# Altium schematic symbol library Moto Symbol Lib.SchLib: 20 symbols
Pins are listed as number, name and electrical type; pins without a type are passive.

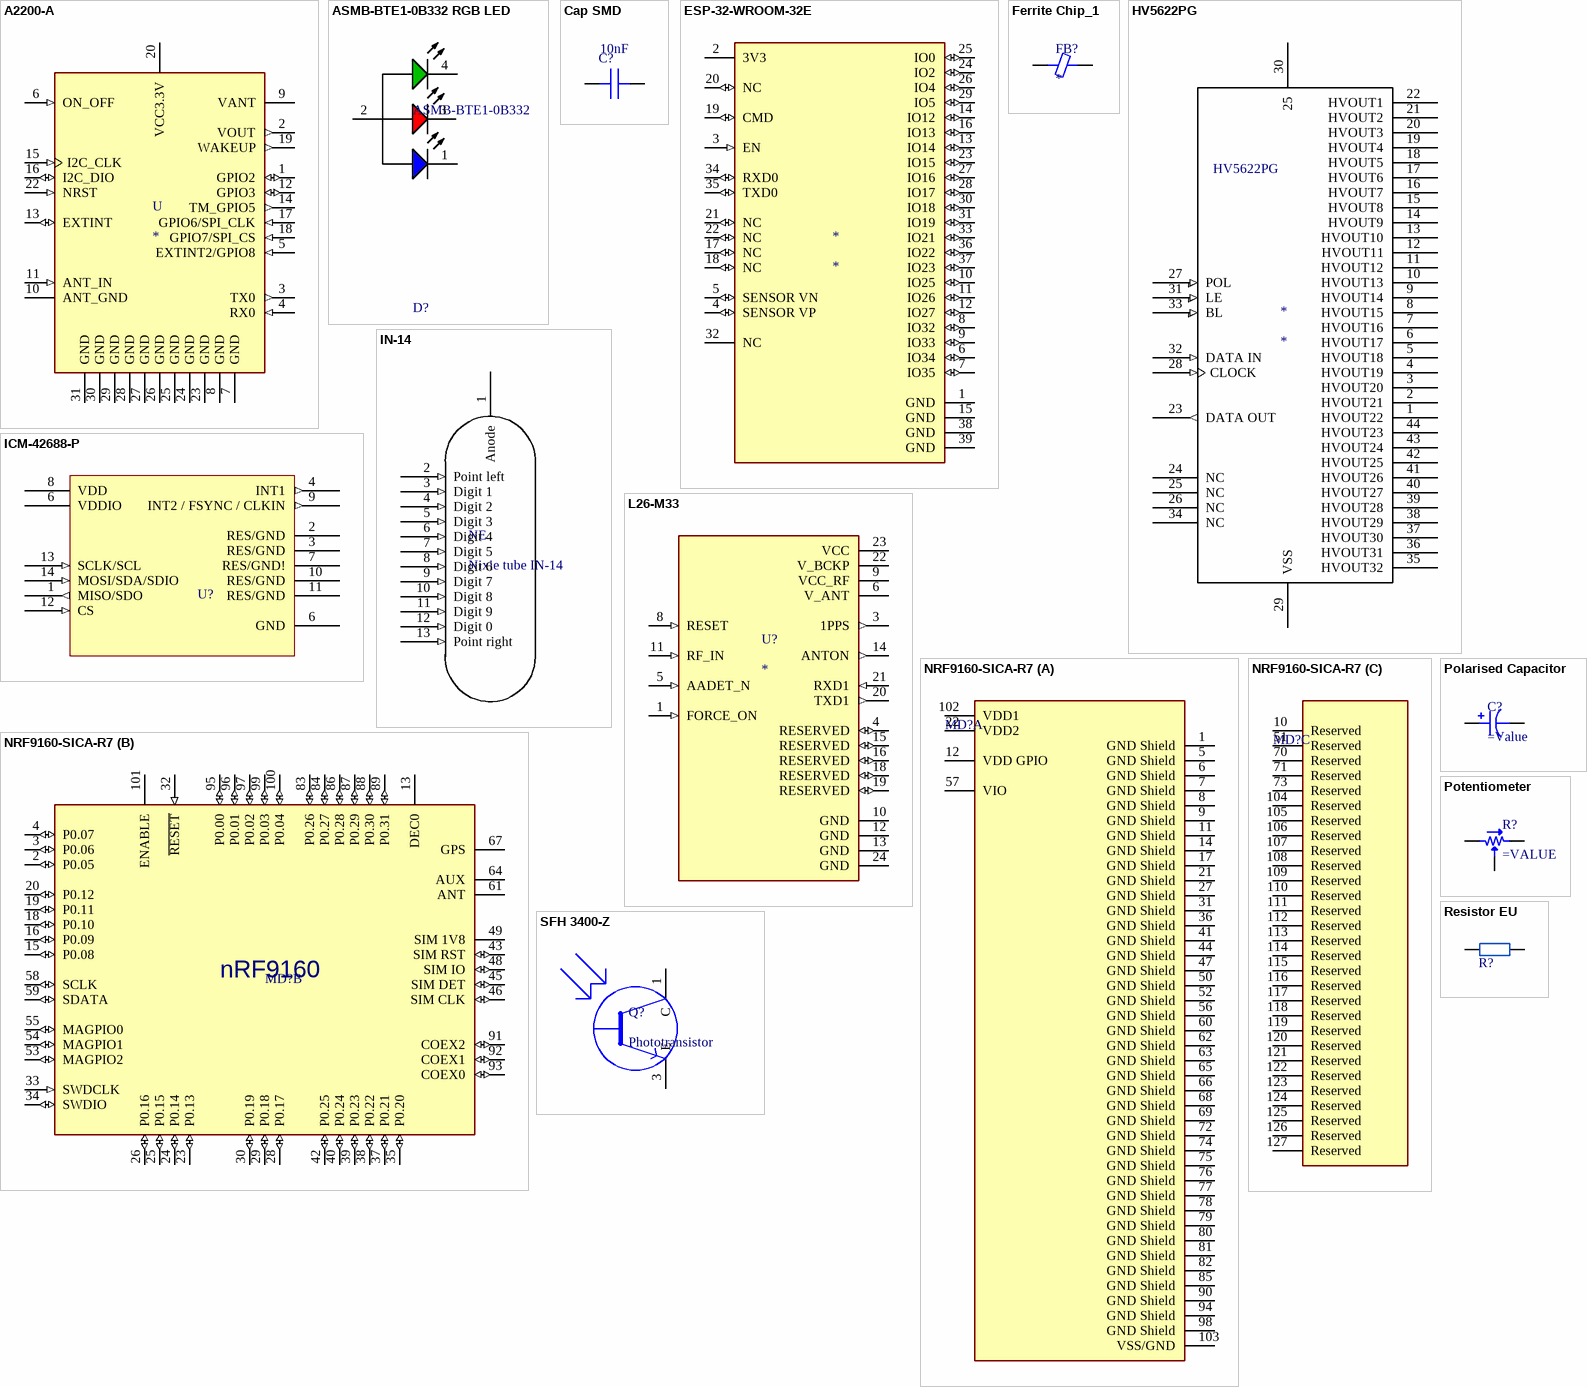
[diagram p0: symbols A2200-A to SFH 3400-Z]

## A2200-A
designator U
SiRFstarIVâ„¢ RF Receiver GPS 1.575GHz -163dBm 115.2kbps Module; MP: A2200-A; MF: Maestro Wireless; SnapEDA_Link: https://www.snapeda.com/parts/A2200-A/Maestro%20Wireless%20Solutions/view-part/51723/?ref=snap; Availability: Unavailable; Price: None; Value: *; Package: Module Maestro Wireless
footprint XCVR_A2200-A
pins: 1 GPIO2 (io), 2 VOUT (out), 3 TX0 (out), 4 RX0 (in), 5 EXTINT2/GPIO8 (in), 6 ON_OFF (in), 7 GND (power), 8 GND (power), 9 VANT (power), 10 ANT_GND (power), 11 ANT_IN (in), 12 GPIO3 (io), 13 EXTINT (io), 14 TM_GPIO5 (out), 15 I2C_CLK (in), 16 I2C_DIO (io), 17 GPIO6/SPI_CLK (in), 18 GPIO7/SPI_CS (in), 19 WAKEUP (out), 20 VCC3.3V (power), 22 NRST (in), 23 GND (power), 24 GND (power), 25 GND (power), 26 GND (power), 27 GND (power), 28 GND (power), 29 GND (power), 30 GND (power), 31 GND (power)

## ASMB-BTE1-0B332 RGB LED
designator D?, comment ASMB-BTE1-0B332
LED RGB DIFFUSED 4PLCC SMD; Manufacturer: Broadcom; Led Orientation: Top View; Colour: Blue, Green, Red; Viewing Angle: 110°; Power Dissipation: 90/90/78mW; Forward Current: 20mA; Max Junction Temp: +110°C; Wavelength: 469/529/622nm; Luminous Intensity: 350/1500/630mcd; Forward Voltage: 3.1/3.1/2.1V; Reverse Voltage: 4V; Peak Emmision Wavelength: 464/521/629nm; Package: 0; Temperature Range High: +100°C; Device Class L1: Optoelectronics; Device Class L2: LEDs; Temperature Range Low: -40°C; Temperature: -40°C to +100°C; Category: Diode; Device Class L3: unset; Manufacturer Part Number: ASMB-BTE1-0B332; Digikey Description: LED RGB DIFFUSED 4PLCC SMD; Lead Free: Yes; ComponentLink2Description: Datasheet; RoHS: TRUE; Automotive: No; Height: 2.1mm; ComponentLink2URL: https://docs.broadcom.com/docs/AV02-4236EN; Octopart: https://octopart.com/asmb-bte1-0b332-broadcom-71127192
footprint FP-ASMB-BTE1-0B332-MFG
pins: 1 Cathode(Blue), 2 Common Anode, 3 Cathode(Red), 4 Cathode(Green)

## Cap SMD
designator C?  value 10nF  (hidden comment: Cap SMD)
footprint C0603 (1608) (Chip Capacitor, 2-Leads, Body 1,60x0,81mm, IPC Low Density)
pins: 1 (power) "Output", 2 (power) "Output"

## ESP-32-WROOM-32E
designator *
footprint ESP-32-WROOM-32E
pins: 1 GND (power), 2 3V3 (power), 3 EN (in), 4 SENSOR VP (io), 5 SENSOR VN (io), 6 IO34 (io), 7 IO35 (io), 8 IO32 (io), 9 IO33 (io), 10 IO25 (io), 11 IO26 (io), 12 IO27 (io), 13 IO14 (io), 14 IO12 (io), 15 GND (power), 16 IO13 (io), 17 NC (io), 18 NC (io), 19 CMD (io), 20 NC (io), 21 NC (io), 22 NC (io), 23 IO15 (io), 24 IO2 (io), 25 IO0 (io), 26 IO4 (io), 27 IO16 (io), 28 IO17 (io), 29 IO5 (io), 30 IO18 (io), 31 IO19 (io), 32 NC, 33 IO21 (io), 34 RXD0 (io), 35 TXD0 (io), 36 IO22 (io), 37 IO23 (io), 38 GND (power), 39 GND (power)

## Ferrite Chip_1
designator FB?
SMT Ferrite Chip
pins: 1, 2

## HV5622PG
designator *
High Voltage Open Collector 32-bit shift register
pins: 1 HVOUT22, 2 HVOUT21, 3 HVOUT20, 4 HVOUT19, 5 HVOUT18, 6 HVOUT17, 7 HVOUT16, 8 HVOUT15, 9 HVOUT14, 10 HVOUT13, 11 HVOUT12, 12 HVOUT11, 13 HVOUT10, 14 HVOUT9, 15 HVOUT8, 16 HVOUT7, 17 HVOUT6, 18 HVOUT5, 19 HVOUT4, 20 HVOUT3, 21 HVOUT2, 22 HVOUT1, 23 DATA OUT (out), 24 NC (oe) "Logic supply voltage", 25 NC (power) "Logic supply voltage", 26 NC (power) "Logic supply voltage", 27 POL (in) "Output polarity", 28 CLOCK (in), 29 VSS (power) "Reference voltage", 30 25 (power) "Logic supply voltage", 31 LE (in) "Output latch", 32 DATA IN (in), 33 BL (in) "Blanking", 34 NC (power) "Logic supply voltage", 35 HVOUT32, 36 HVOUT31, 37 HVOUT30, 38 HVOUT29, 39 HVOUT28, 40 HVOUT27, 41 HVOUT26, 42 HVOUT25, 43 HVOUT24, 44 HVOUT23

## ICM-42688-P
designator U?  (value not drawn)
footprint ICM-42688-P
pins: 1 MISO/SDO (out) "IO Power supply voltage", 2 RES/GND "IO Power supply voltage", 3 RES/GND "IO Power supply voltage", 4 INT1 (out) "IO Power supply voltage", 6 VDDIO (power) "IO Power supply voltage", 6 GND (power) "IO Power supply voltage", 7 RES/GND! "IO Power supply voltage", 8 VDD (power) "Power supply voltage", 9 INT2 / FSYNC / CLKIN (out) "IO Power supply voltage", 10 RES/GND "IO Power supply voltage", 11 RES/GND "IO Power supply voltage", 12 CS (in) "IO Power supply voltage", 13 SCLK/SCL (in) "IO Power supply voltage", 14 MOSI/SDA/SDIO (in) "IO Power supply voltage"

## IN-14
designator NE, comment Nixie tube IN-14
pins: 1 Anode (power) "Anode pin 170V", 2 Point left (in) "Anode pin 170V", 3 Digit 1 (in) "Digit", 4 Digit 2 (in) "Digit", 5 Digit 3 (in) "Digit", 6 Digit 4 (in) "Digit", 7 Digit 5 (in) "Digit", 8 Digit 6 (in) "Digit", 9 Digit 7 (in) "Digit", 10 Digit 8 (in) "Digit", 11 Digit 9 (in) "Digit", 12 Digit 0 (in) "Digit", 13 Point right (in) "Digit"

## L26-M33
designator U?
L26 is a concurrent receiver module integrated with multiple systems. It provides simultaneous GPS, GLONASS, Galileo and QZSS open service L1 reception capability; MP: L26-M33; MF: Quectel; Price: None; Availability: Warning; SnapEDA_Link: https://www.snapeda.com/parts/L26-M33/Quectel/view-part/231832/?ref=snap; Value: *; Package: None; Purchase-URL: https://pricing.snapeda.com/search/part/L26-M33/?ref=eda; Check_prices: https://www.snapeda.com/parts/L26-M33/Quectel/view-part/231832/?ref=eda
footprint XCVR_L26-M33
pins: 1 FORCE_ON (in), 3 1PPS (out), 4 RESERVED (io), 5 AADET_N (in), 6 V_ANT (power), 8 RESET (in), 9 VCC_RF (power), 10 GND (power), 11 RF_IN (in), 12 GND (power), 13 GND (power), 14 ANTON (out), 15 RESERVED (io), 16 RESERVED (io), 18 RESERVED (io), 19 RESERVED (io), 20 TXD1 (out), 21 RXD1 (in), 22 V_BCKP (power), 23 VCC (power), 24 GND (power)

## NRF9160-SICA-R7
designator MD?  (value not drawn)
footprint Nordic_Semiconductor_ASA_0_MFG
part A pins: 1 GND Shield (power), 5 GND Shield (power), 6 GND Shield (power), 7 GND Shield (power), 8 GND Shield (power), 9 GND Shield (power), 11 GND Shield (power), 12 VDD GPIO (power), 14 GND Shield (power), 17 GND Shield (power), 21 GND Shield (power), 22 VDD2 (power), 27 GND Shield (power), 31 GND Shield (power), 36 GND Shield (power), 41 GND Shield (power), 44 GND Shield (power), 47 GND Shield (power), 50 GND Shield (power), 52 GND Shield (power), 56 GND Shield (power), 57 VIO (power), 60 GND Shield (power), 62 GND Shield (power), 63 GND Shield (power), 65 GND Shield (power), 66 GND Shield (power), 68 GND Shield (power), 69 GND Shield (power), 72 GND Shield (power), 74 GND Shield (power), 75 GND Shield (power), 76 GND Shield (power), 77 GND Shield (power), 78 GND Shield (power), 79 GND Shield (power), 80 GND Shield (power), 81 GND Shield (power), 82 GND Shield (power), 85 GND Shield (power), 90 GND Shield (power), 94 GND Shield (power), 98 GND Shield (power), 102 VDD1 (power), 103 VSS/GND (power)
part B pins: 2 P0.05 (io), 3 P0.06 (io), 4 P0.07 (io), 13 DEC0 (power), 15 P0.08 (io), 16 P0.09 (io), 18 P0.10 (io), 19 P0.11 (io), 20 P0.12 (io), 23 P0.13 (io), 24 P0.14 (io), 25 P0.15 (io), 26 P0.16 (io), 28 P0.17 (io), 29 P0.18 (io), 30 P0.19 (io), 32 ~{RESET} (in), 33 SWDCLK (in), 34 SWDIO (io), 35 P0.20 (io), 37 P0.21 (io), 38 P0.22 (io), 39 P0.23 (io), 40 P0.24 (io), 42 P0.25 (io), 43 SIM RST (io), 45 SIM DET (io), 46 SIM CLK (io), 48 SIM IO (io), 49 SIM 1V8 (power), 53 MAGPIO2 (io), 54 MAGPIO1 (io), 55 MAGPIO0 (io), 58 SCLK (io), 59 SDATA (io), 61 ANT, 64 AUX, 67 GPS, 83 P0.26 (io), 84 P0.27 (io), 86 P0.28 (io), 87 P0.29 (io), 88 P0.30 (io), 89 P0.31 (io), 91 COEX2 (io), 92 COEX1 (io), 93 COEX0 (io), 95 P0.00 (io), 96 P0.01 (io), 97 P0.02 (io), 99 P0.03 (io), 100 P0.04 (io), 101 ENABLE
part C pins: 10 Reserved, 51 Reserved, 70 Reserved, 71 Reserved, 73 Reserved, 104 Reserved, 105 Reserved, 106 Reserved, 107 Reserved, 108 Reserved, 109 Reserved, 110 Reserved, 111 Reserved, 112 Reserved, 113 Reserved, 114 Reserved, 115 Reserved, 116 Reserved, 117 Reserved, 118 Reserved, 119 Reserved, 120 Reserved, 121 Reserved, 122 Reserved, 123 Reserved, 124 Reserved, 125 Reserved, 126 Reserved, 127 Reserved
part B text: nRF9160

## Polarised Capacitor
designator C?
SMT Polarised Capacitor
pins: 1, 2

## Potentiometer
designator R?
Potentiometer
pins: 1, 2, 3

## Resistor EU
designator R?, comment Res  (value not drawn)
footprint R0603 (1608)
pins: 1 (power) "Output", 2 (power) "Output"

## SFH 3400-Z
designator Q?, comment Phototransistor
footprint SFH 3400
pins: 1 C, 3 E

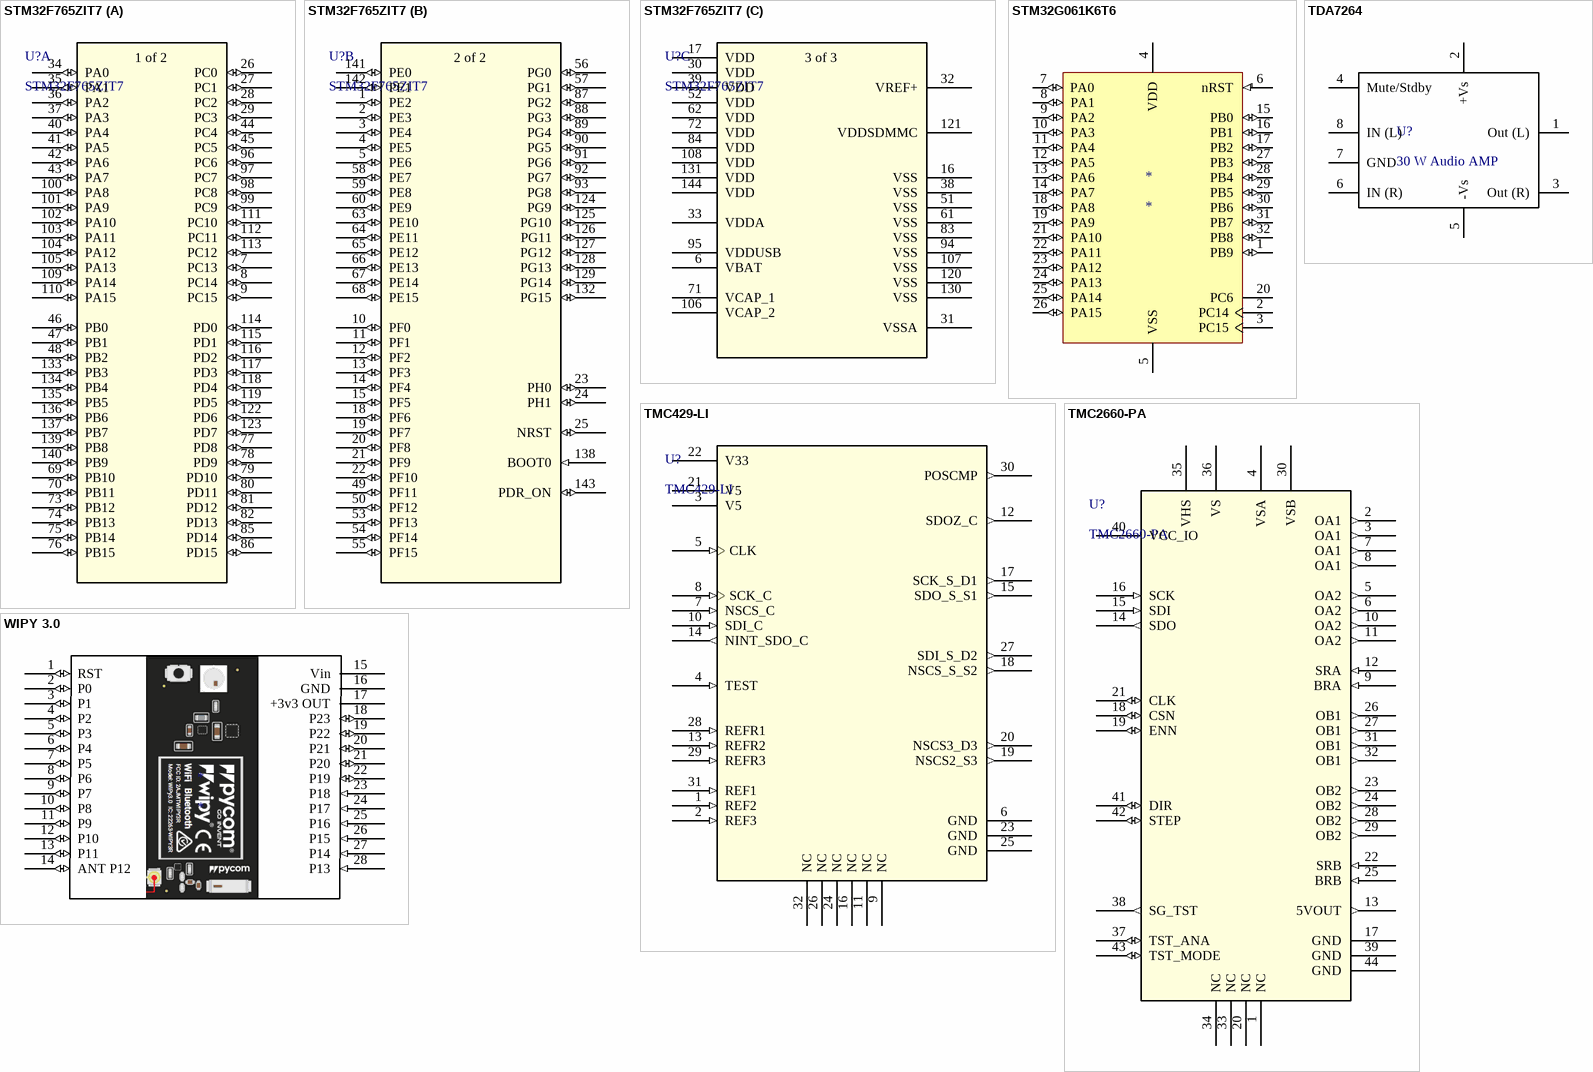
[diagram p1: symbols STM32F765ZIT7 to WIPY 3.0]

## STM32F765ZIT7
designator U?
No Description Available; Built_By: EMA_Jessica; Vendor: STMicroelectronics; SourceLibrary: Add_to_database_2020-10-19; Copyright: Copyright (C) 2018 Accelerated Designs. All rights reserved; Manufacturer_Part_Number: STM32F765ZIT7; RefDes: RefDes; Type: DEV
footprint LQFP-144_STM-M
part A pins: 7 PC13 (io), 8 PC14 (io), 9 PC15 (io), 26 PC0 (io), 27 PC1 (io), 28 PC2 (io), 29 PC3 (io), 34 PA0 (io), 35 PA1 (io), 36 PA2 (io), 37 PA3 (io), 40 PA4 (io), 41 PA5 (io), 42 PA6 (io), 43 PA7 (io), 44 PC4 (io), 45 PC5 (io), 46 PB0 (io), 47 PB1 (io), 48 PB2 (io), 69 PB10 (io), 70 PB11 (io), 73 PB12 (io), 74 PB13 (io), 75 PB14 (io), 76 PB15 (io), 77 PD8 (io), 78 PD9 (io), 79 PD10 (io), 80 PD11 (io), 81 PD12 (io), 82 PD13 (io), 85 PD14 (io), 86 PD15 (io), 96 PC6 (io), 97 PC7 (io), 98 PC8 (io), 99 PC9 (io), 100 PA8 (io), 101 PA9 (io), 102 PA10 (io), 103 PA11 (io), 104 PA12 (io), 105 PA13 (io), 109 PA14 (io), 110 PA15 (io), 111 PC10 (io), 112 PC11 (io), 113 PC12 (io), 114 PD0 (io), 115 PD1 (io), 116 PD2 (io), 117 PD3 (io), 118 PD4 (io), 119 PD5 (io), 122 PD6 (io), 123 PD7 (io), 133 PB3 (io), 134 PB4 (io), 135 PB5 (io), 136 PB6 (io), 137 PB7 (io), 139 PB8 (io), 140 PB9 (io)
part B pins: 1 PE2 (io), 2 PE3 (io), 3 PE4 (io), 4 PE5 (io), 5 PE6 (io), 10 PF0 (io), 11 PF1 (io), 12 PF2 (io), 13 PF3 (io), 14 PF4 (io), 15 PF5 (io), 18 PF6 (io), 19 PF7 (io), 20 PF8 (io), 21 PF9 (io), 22 PF10 (io), 23 PH0 (io), 24 PH1 (io), 25 NRST (io), 49 PF11 (io), 50 PF12 (io), 53 PF13 (io), 54 PF14 (io), 55 PF15 (io), 56 PG0 (io), 57 PG1 (io), 58 PE7 (io), 59 PE8 (io), 60 PE9 (io), 63 PE10 (io), 64 PE11 (io), 65 PE12 (io), 66 PE13 (io), 67 PE14 (io), 68 PE15 (io), 87 PG2 (io), 88 PG3 (io), 89 PG4 (io), 90 PG5 (io), 91 PG6 (io), 92 PG7 (io), 93 PG8 (io), 124 PG9 (io), 125 PG10 (io), 126 PG11 (io), 127 PG12 (io), 128 PG13 (io), 129 PG14 (io), 132 PG15 (io), 138 BOOT0 (in), 141 PE0 (io), 142 PE1 (io), 143 PDR_ON (io)
part C pins: 6 VBAT (power), 16 VSS (power), 17 VDD (power), 30 VDD (power), 31 VSSA (power), 32 VREF+ (power), 33 VDDA (power), 38 VSS (power), 39 VDD (power), 51 VSS (power), 52 VDD (power), 61 VSS (power), 62 VDD (power), 71 VCAP_1 (power), 72 VDD (power), 83 VSS (power), 84 VDD (power), 94 VSS (power), 95 VDDUSB (power), 106 VCAP_2 (power), 107 VSS (power), 108 VDD (power), 120 VSS (power), 121 VDDSDMMC (power), 130 VSS (power), 131 VDD (power), 144 VDD (power)
part A text: 1 of 2
part B text: 2 of 2
part C text: 3 of 3

## STM32G061K6T6
designator *
footprint LQFP32
pins: 1 PB9 (io), 2 PC14, 3 PC15, 4 VDD, 5 VSS, 6 nRST (in), 7 PA0 (io), 8 PA1 (io), 9 PA2 (io), 10 PA3 (io), 11 PA4 (io), 12 PA5 (io), 13 PA6 (io), 14 PA7 (io), 15 PB0 (io), 16 PB1 (io), 17 PB2 (io), 18 PA8 (io), 19 PA9 (io), 20 PC6, 21 PA10 (io), 22 PA11 (io), 23 PA12 (io), 24 PA13 (io), 25 PA14 (io), 26 PA15 (io), 27 PB3 (io), 28 PB4 (io), 29 PB5 (io), 30 PB6 (io), 31 PB7 (io), 32 PB8 (io)

## TDA7264
designator U?, comment 30 W Audio AMP
pins: 1 Out (L) (power) "Output", 2 +Vs (power) "Output", 3 Out (R) (power) "Output", 4 Mute/Stdby (power) "Output", 5 -Vs (power) "Output", 6 IN (R) (power) "Output", 7 GND (power) "Output", 8 IN (L) (power) "Output"

## TMC429-LI
designator U?
No Description Available; Built_By: EMA_Jessica; Vendor: TRINAMIC; SourceLibrary: Trinamic_2018-10-17; Copyright: Copyright (C) 2016 Accelerated Designs. All rights reserved; Manufacturer_Part_Number: TMC429-LI; RefDes: RefDes; Type: DEV
footprint QFN32_5X5_TRI-M
pins: 1 REF2 (in), 2 REF3 (in), 3 V5 (power), 4 TEST (in), 5 CLK (in), 6 GND (power), 7 NSCS_C (in), 8 SCK_C (in), 9 NC, 10 SDI_C (in), 11 NC, 12 SDOZ_C (out), 13 REFR2 (in), 14 NINT_SDO_C (out), 15 SDO_S_S1 (out), 16 NC, 17 SCK_S_D1 (out), 18 NSCS_S_S2 (out), 19 NSCS2_S3 (out), 20 NSCS3_D3 (out), 21 V5 (power), 22 V33 (power), 23 GND (power), 24 NC, 25 GND (power), 26 NC, 27 SDI_S_D2 (out), 28 REFR1 (in), 29 REFR3 (in), 30 POSCMP (out), 31 REF1 (in), 32 NC

## TMC2660-PA
designator U?
No Description Available; Built_By: EMA_Jessica; Vendor: TRINAMIC; SourceLibrary: Trinamic_2018-10-17; Copyright: Copyright (C) 2016 Accelerated Designs. All rights reserved; Manufacturer_Part_Number: TMC2660-PA; RefDes: RefDes; Type: DEV
footprint LQFP44_12X12_TRI
footprint LQFP44_12X12_TRI-M
pins: 1 NC, 2 OA1 (out), 3 OA1 (out), 4 VSA (power), 5 OA2 (out), 6 OA2 (out), 7 OA1 (out), 8 OA1 (out), 9 BRA (in), 10 OA2 (out), 11 OA2 (out), 12 SRA (in), 13 5VOUT (out), 14 SDO (out), 15 SDI (in), 16 SCK (in), 17 GND (power), 18 CSN (io), 19 ENN (io), 20 NC, 21 CLK (io), 22 SRB (in), 23 OB2 (out), 24 OB2 (out), 25 BRB (in), 26 OB1 (out), 27 OB1 (out), 28 OB2 (out), 29 OB2 (out), 30 VSB (power), 31 OB1 (out), 32 OB1 (out), 33 NC, 34 NC, 35 VHS (power), 36 VS (power), 37 TST_ANA (io), 38 SG_TST (out), 39 GND (power), 40 VCC_IO (power), 41 DIR (io), 42 STEP (io), 43 TST_MODE (io), 44 GND (power)

## WIPY 3.0
designator *
footprint WIPY 3.0
pins: 1 RST (io), 2 P0 (io), 3 P1 (io), 4 P2 (io), 5 P3 (io), 6 P4 (io), 7 P5 (io), 8 P6 (io), 9 P7 (io), 10 P8 (io), 11 P9 (io), 12 P10 (io), 13 P11 (io), 14 ANT P12 (io), 15 Vin (power), 16 GND (power), 17 +3v3 OUT (power), 18 P23 (io), 19 P22 (io), 20 P21 (io), 21 P20 (io), 22 P19 (io), 23 P18 (in), 24 P17 (in), 25 P16 (in), 26 P15 (in), 27 P14 (in), 28 P13 (in)